# Altium footprint library RBM_V1.0_PcbLib.PcbLib: 39 footprints (part 1 of 3)
Each footprint in its own frame and in the unit in brackets; x right, y up, seen from the top. Pads: shape width x height; smd on the part's side, far side on the other; paste and mask are expansions set on the pad; w line width, h text height; cw(c..) or ccw(c..) is an arc to the next point about the centre after c.
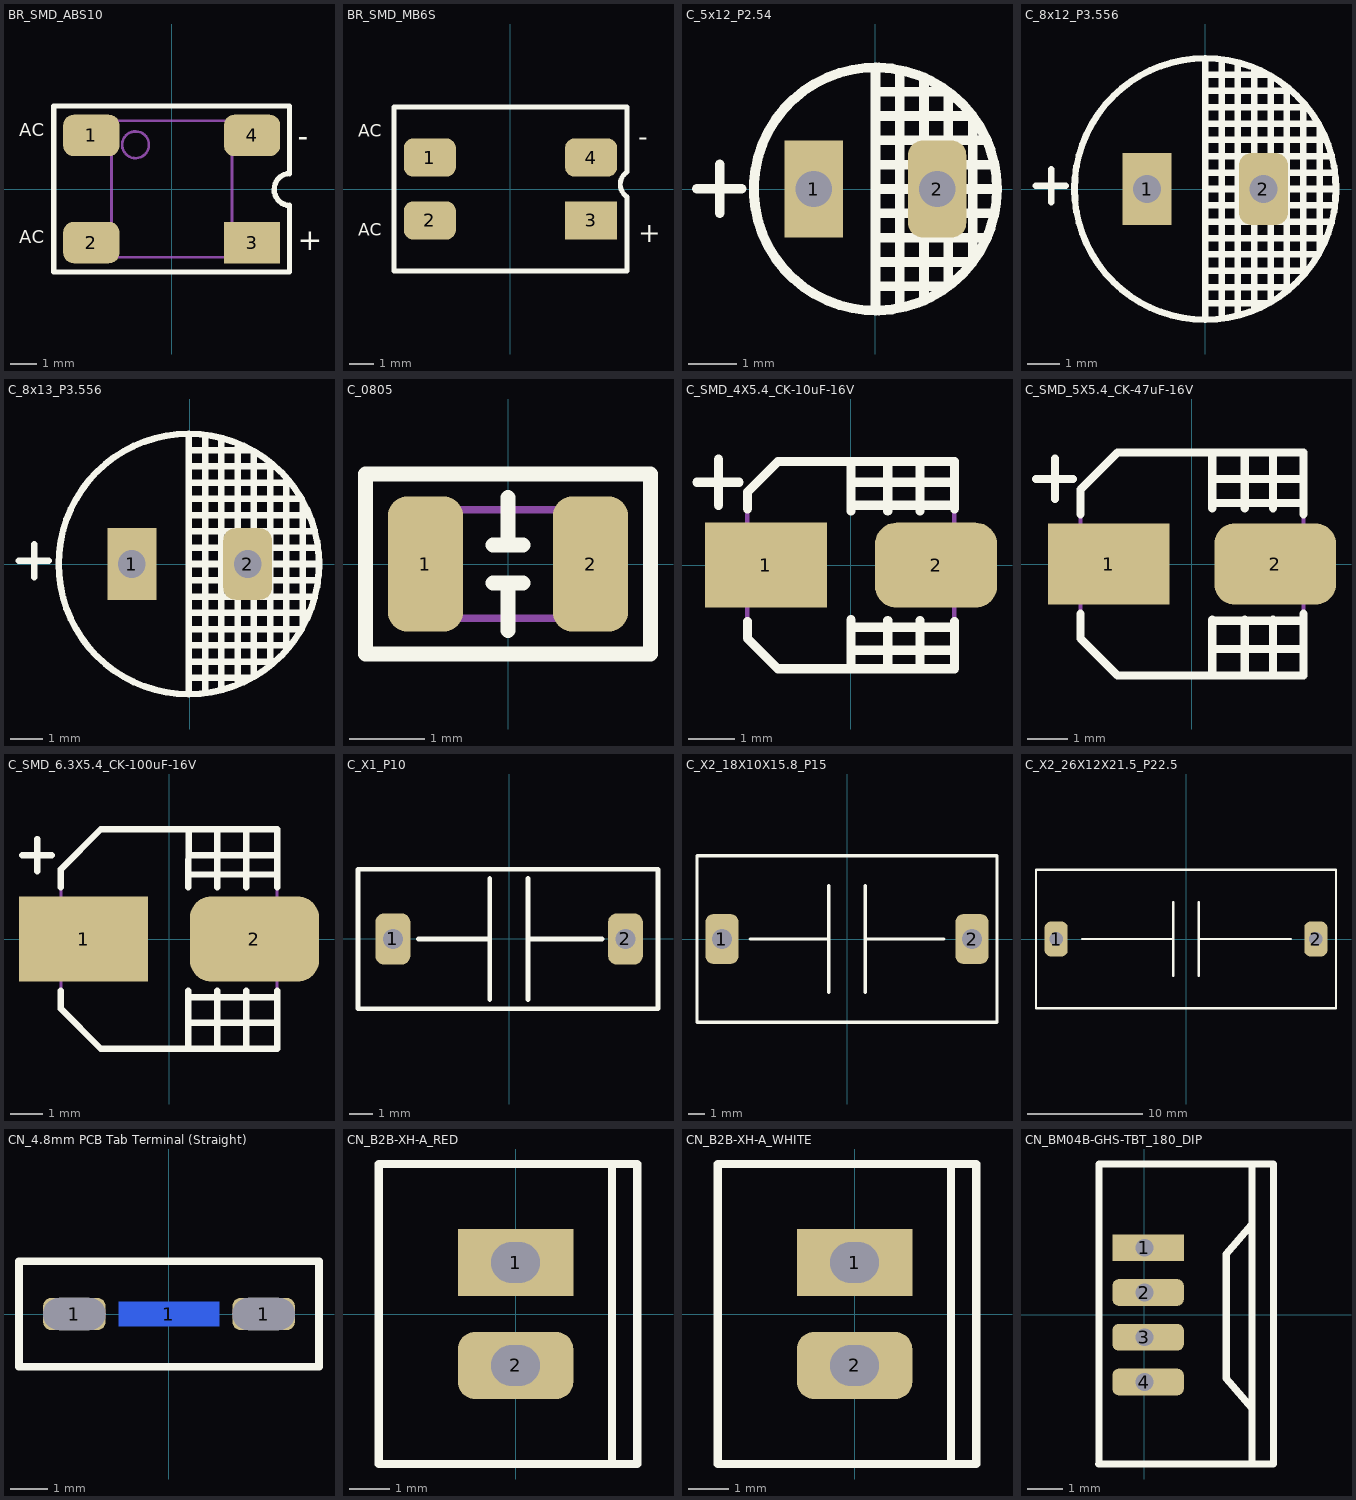
[diagram p0: the footprints below, top view; thin cyan lines are the x and y axes]

## BR_SMD_ABS10 [mm]
pads (4):
  rrect50% 2.1x1.55 smd: 1(-3,2) 2(-3,-2) 4(3,2)
  rect 2.1x1.55 smd: 3(3,-2)
Top Overlay:
  lines w0.2: 4.299,-0.603 cw(c4.427,-0.017) 4.306,0.57 ; 4.4,-0.603 4.4,-3.1 -4.4,-3.1 -4.4,3.1 4.4,3.1 4.4,0.57
  text "AC" at -5.7,-2.2 h0.85
  text "AC" at -5.7,1.8 h0.85
  text "-" at 4.7,2.2 h0.8
  text "+" at 4.7,-1.6 h0.8
Mechanical 13:
  circle w0.1: c-1.35,1.65 r0.5
  lines w0.1: -2.25,-2.55 -2.25,2.55 2.25,2.55 2.25,-2.55 -2.25,-2.55
3D body "TSOP400P650X160-4N.step": height 1.6, standoff 0, extent -3.25,-2.55 3.25,2.55

## BR_SMD_MB6S [mm]
pads (4):
  rrect50% 2.1x1.55 smd: 1(-3.25,1.27) 2(-3.25,-1.27) 4(3.25,1.27)
  rect 2.1x1.55 smd: 3(3.25,-1.27)
Top Overlay:
  lines w0.2: 4.7,-0.322 4.7,-3.3 -4.7,-3.3 -4.7,3.3 4.7,3.3 4.7,0.692 ; 4.705,0.692 ccw(c5.028,0.186) 4.709,-0.322
  text "AC" at -6.15,-2.07 h0.85
  text "AC" at -6.15,1.93 h0.85
  text "-" at 5.15,2.33 h0.8
  text "+" at 5.15,-1.47 h0.8
3D body "User Library-moste3k.STEP": height 1.45, standoff -0.08, extent -3.447,-2.417 3.453,2.577

## C_5x12_P2.54 [mm]
pads (2):
  rect 1.2x2 hole 0.75: 1(-1.27,0)
  rrect50% 1.2x2 hole 0.75: 2(1.27,0)
Top Overlay:
  circle w0.2: c0,0 r2.5
  lines w0.2: -3.67,0.002 -2.754,0.002 ; -3.203,-0.498 -3.203,0.502 ; 0,-2.5 0,2.5 ; 0,-2 1.5,-2 1.5,2 0,2 ; 0,-1.5 2,-1.5 2,1.497 ; 0,-1 2.3,-1 ; 0,-0.5 2.4,-0.5 ; 0,0 2.5,0 ; 0,0.5 2.413,0.5 ; 0,1 2.3,1 ; 0,1.5 2,1.5 ; 0.5,-2.4 0.5,2.4 ; 1,-2.3 1,2.3
3D body "User Library-CE_R100_D200_H460 (1).step": height 13.05, standoff -2.05, extent -2.54,-2.535 2.54,2.54

## C_8x12_P3.556 [mm]
pads (2):
  rect 1.5x2.2 hole 0.85: 1(-1.778,0)
  rrect50% 1.5x2.2 hole 0.85: 2(1.778,0)
Top Overlay:
  circle w0.2: c0,0 r4
  lines w0.1: 0,0 0,4
  lines w0.2: -5.178,0.1 -4.262,0.1 ; -4.711,-0.4 -4.711,0.6 ; 0,-3.937 0,3.937 ; 0,-3.5 1.9,-3.5 ; 0,-3 2.6,-3 ; 0,-2.5 3.1,-2.5 ; 0,-2 3.4,-2 ; 0,-1.5 3.7,-1.5 ; 0,-1 3.8,-1 ; 0,-0.5 3.9,-0.5 ; 0,0 4,0 ; 0,0.5 3.9,0.5 ; 0,1 3.8,1 ; 0,1.5 3.7,1.5 ; 0,2 3.4,2 ; 0,2.5 3.1,2.5 ; 0,3 2.6,3 ; 0,3.5 1.9,3.5 ; 0.5,-3.9 0.5,0 0.5,3.9 ; 1,-3.8 1,0 1,3.8 ; 1.5,-3.7 1.5,0 1.5,3.7 ; 2,-3.4 2,0 2,3.4 ; 2.5,-3.1 2.5,0 2.5,3.1 ; 3,-2.6 3,0 3,2.6 ; 3.5,-1.9 3.5,0 3.5,1.9
3D body "User Library-Cap-EL(8x12-3_5)T.step": height 12.55, standoff -3.05, extent -3.937,-3.937 4.065,4.059

## C_8x13_P3.556 [mm]
pads (2):
  rect 1.5x2.2 hole 0.85: 1(-1.778,0)
  rrect50% 1.5x2.2 hole 0.85: 2(1.778,0)
Top Overlay:
  circle w0.2: c-0.028,0 r4
  lines w0.2: -5.245,0.1 -4.329,0.1 ; -4.778,-0.4 -4.778,0.6 ; -0.028,-3.937 -0.028,3.937 ; -0.028,-3.5 1.872,-3.5 ; -0.028,-3 2.572,-3 ; -0.028,-2.5 3.072,-2.5 ; -0.028,-2 3.372,-2 ; -0.028,-1.5 3.672,-1.5 ; -0.028,-1 3.8,-1 ; -0.028,-0.5 3.872,-0.5 ; -0.028,0 3.972,0 ; -0.028,0.5 3.872,0.5 ; -0.028,1 3.772,1 ; -0.028,1.5 3.672,1.5 ; -0.028,2 3.372,2 ; -0.028,2.5 3.072,2.5 ; -0.028,3 2.572,3 ; -0.028,3.5 1.872,3.5 ; 0.472,-3.9 0.472,0 0.472,3.9 ; 0.972,-3.8 0.972,0 0.972,3.8 ; 1.472,-3.7 1.472,0 1.472,3.7 ; 1.972,-3.4 1.972,0 1.972,3.4 ; 2.472,-3.1 2.472,0 2.472,3.1 ; 2.972,-2.6 2.972,0 2.972,2.6 ; 3.472,-1.9 3.472,0 3.472,1.9
3D body "User Library-CAPAER_D080_L130_P035_W006X030.STEP": height 13.01, standoff -3, extent -4,-4 4.01,4

## C_0805 [mm]
height 1
pads (2):
  rrect50% 1x1.8 smd: 1(-1.1,0) 2(1.1,0)
Top Overlay:
  lines w0.2: -0.2,-0.254 0.2,-0.254 ; -0.2,0.254 0.2,0.254 ; 0,-0.889 0,-0.254 ; 0,0.254 0,0.889 ; -1.9,-1.2 1.9,-1.2 1.9,1.2 -1.9,1.2 -1.9,1.1 -1.9,-1.2
Mechanical 13:
  lines w0.1: -1.1,-0.725 1.1,-0.725 1.1,0.725 -1.1,0.725 -1.1,-0.725
3D body "C_0805.step": height 1, standoff 0, extent -1.1,-0.725 1.1,0.725

## C_SMD_4X5.4_CK-10uF-16V [mm] "Aluminum Electrolytic Capacitor, Body 4.30x4.30x5.80mm, IPC Low Density"
height 5.8
pads (2):
  rect 2.65x1.85 smd: 1(-1.85,0)
  rrect50% 2.65x1.85 smd: 2(1.85,0)
Top Overlay:
  lines w0.2: -3.345,1.8 -2.429,1.8 ; -2.878,1.3 -2.878,2.3 ; -2.25,-1.225 -2.25,-1.587 -1.587,-2.25 2.25,-2.25 2.25,-1.225 ; -2.25,1.225 -2.25,1.587 -1.587,2.25 2.25,2.25 2.25,1.225 ; 0,-2.163 0,-1.188 ; 0,-1.85 2.25,-1.85 ; 0,-1.35 2.25,-1.35 ; 0,1.175 0,2.25 ; 0,1.8 2.25,1.8 ; 0,1.9 0,1.3 2.25,1.3 ; 0.8,-2.175 0.8,-1.2 ; 0.8,1.175 0.8,2.25 ; 1.5,-2.175 1.5,-1.2 ; 1.5,1.175 1.5,2.25
Mechanical 13:
  lines w0.1: -2.25,-1.587 -2.25,1.587 -1.587,2.25 2.25,2.25 2.25,-2.25 -1.587,-2.25 -2.25,-1.587
3D body "CAPAE4643X58M.step": height 5.8, standoff 0, extent -2.275,-2.25 2.275,2.25

## C_SMD_5X5.4_CK-47uF-16V [mm] "Aluminum Electrolytic Capacitor, Body 5.30x5.30x5.80mm, IPC Low Density"
height 5.8
pads (2):
  rect 3x2 smd: 1(-2.05,0)
  rrect50% 3x2 smd: 2(2.05,0)
Top Overlay:
  lines w0.2: -3.845,2.1 -2.929,2.1 ; -3.378,1.6 -3.378,2.6 ; -2.75,-1.225 -2.75,-1.837 -1.838,-2.75 2.75,-2.75 2.75,-1.225 ; -2.75,1.225 -2.75,1.837 -1.838,2.75 2.75,2.75 2.75,1.225 ; 0.5,-2.75 0.5,-1.375 ; 0.5,1.375 0.5,2.75 1.3,2.75 1.3,1.375 ; 1.3,-1.375 1.3,-2.75 2,-2.75 2,-1.375 ; 2,1.375 2,2.75 ; 2.75,-2.1 0.5,-2.1 0.5,-1.4 2.75,-1.4 ; 2.75,1.5 0.5,1.5 0.5,2.1 2.75,2.1
Mechanical 13:
  lines w0.1: -2.75,-1.837 -2.75,1.837 -1.838,2.75 2.75,2.75 2.75,-2.75 -1.838,-2.75 -2.75,-1.837
3D body "CAPAE5653X58M.step": height 5.8, standoff 0, extent -2.775,-2.75 2.775,2.75

## C_SMD_6.3X5.4_CK-100uF-16V [mm] "Aluminum Electrolytic Capacitor, Body 6.60x6.70x6.00mm, IPC Low Density"
height 6
pads (2):
  rect 4x2.65 smd: 1(-2.65,0)
  rrect50% 4x2.65 smd: 2(2.65,0)
Top Overlay:
  lines w0.2: -4.545,2.6 -3.629,2.6 ; -4.078,2.1 -4.078,3.1 ; -3.35,-1.6 -3.35,-2.163 -2.112,-3.4 3.35,-3.4 3.35,-1.6 ; -3.35,1.6 -3.35,2.163 -2.112,3.4 3.35,3.4 3.35,1.6 ; 0.6,-3.4 0.6,-1.6 ; 0.6,-2.6 3.35,-2.6 ; 0.6,-1.8 3.35,-1.8 ; 0.6,1.6 0.619,3.4 ; 0.604,2 3.35,2 ; 0.61,2.6 3.35,2.6 ; 1.5,-3.3 1.5,-1.6 ; 1.5,1.6 1.5,3.4 ; 2.4,-3.4 2.4,-1.6 ; 2.4,1.6 2.4,3.4
Mechanical 13:
  lines w0.1: -3.35,-2.163 -2.112,-3.4 3.35,-3.4 3.35,3.4 -2.112,3.4 -3.35,2.163 -3.35,-2.163
3D body "C_SMD_6.3X5.4_CK-100-16V.step": height 6.3, standoff 0, extent -3.5,-3.4 3.5,3.4

## C_X1_P10 [mm]
pads (2):
  rrect50% 1.5x2.2 hole 0.85: 1(-5,0) 2(5,0)
Top Overlay:
  lines w0.2: -3.9,-0.001 -0.84,0 ; -0.84,-2.6 -0.84,2.6 ; 0.807,-2.6 0.807,2.6 ; 0.807,0 4,0 ; -6.5,-3 6.4,-3 6.4,3 -6.5,3 -6.5,-3
3D body: height 1.5, standoff -2, extent 4.699,-0.254 5.297,0.345
3D body: height 1.5, standoff -2, extent -5.297,-0.254 -4.699,0.345
3D body: height 11.89, standoff 0.68, extent -6.414,-2.921 6.35,2.921

## C_X2_18X10X15.8_P15 [mm]
pads (2):
  rrect50% 2x3 hole 1.2: 1(-7.5,0) 2(7.5,0)
Top Overlay:
  lines w0.2: -5.8,0 -1.1,0 ; -1.1,-3.2 -1.1,3.2 ; 1.1,-3.2 1.1,3.2 ; 1.1,0 5.8,0 ; -9,-5 -9,5 9,5 9,-5 -9,-5
3D body: height 3, standoff -2, extent 7.103,-0.399 7.9,0.399
3D body: height 3, standoff -2, extent -7.898,-0.399 -7.102,0.399
3D body: height 15.8, standoff 0.2, extent -9,-5 9,5

## C_X2_26X12X21.5_P22.5 [mm]
pads (2):
  rrect50% 2x3 hole 1.2: 1(-11.25,0) 2(11.25,0)
Top Overlay:
  lines w0.2: -9,0 -1.1,0 ; -1.1,-3.2 -1.1,3.2 ; 1.1,-3.2 1.1,3.2 ; 1.1,0 9.1,0 ; -13,-6 -13,6 13,6 13,-6 -13,-6
3D body: height 3, standoff -2, extent 10.852,-0.399 11.648,0.399
3D body: height 3, standoff -2, extent -11.648,-0.399 -10.852,0.399
3D body: height 21.5, standoff 0.2, extent -13,-6 13,6

## CN_4.8mm PCB Tab Terminal (Straight) [mm]
pads (3):
  rrect50% 1.65x0.85 / inner rrect50% 1.65x0.85 / far side rrect50% 2.5x1.25 hole 0.85 slot 1.65 at 0 deg: 1(-2.5,0) 1(2.5,0)
  rect 2.65x0.65 smd far side: 1(0,0)
Top Overlay:
  lines w0.2: -3.962,-1.397 -3.962,1.397 3.963,1.397 3.963,-1.397 -3.962,-1.397
3D body "4.8mm PCB Tab Terminal (Straight).stp": height 9, standoff -3.45, extent -3.962,-1.3 3.962,1.494

## CN_B2B-XH-A_RED [mm]
pads (2):
  rect 2.85x1.65 hole 1.2 slot 1 at 90 deg: 1(0,1.27)
  rrect50% 2.85x1.65 hole 1.2 slot 1 at 90 deg: 2(0,-1.27)
Top Overlay:
  lines w0.2: 2.375,-3.7 2.375,3.7 ; 2.375,-3.7 -3.375,-3.7 -3.375,3.7 2.375,3.7 ; 2.375,-3.7 3,-3.7 3,3.7 2.375,3.7
3D body: height 7, standoff -3.5, extent -0.35,-1.615 0.35,-0.925
3D body: height 7, standoff -3.5, extent -0.35,0.925 0.35,1.615
3D body "B2B-XH-A.STEP": height 7, standoff -3.4, extent -3.375,-3.7 2.375,3.7

## CN_B2B-XH-A_WHITE [mm]
pads (2):
  rect 2.85x1.65 hole 1.2 slot 1 at 90 deg: 1(0,1.27)
  rrect50% 2.85x1.65 hole 1.2 slot 1 at 90 deg: 2(0,-1.27)
Top Overlay:
  lines w0.2: 2.375,-3.7 2.375,3.7 ; 2.375,-3.7 -3.375,-3.7 -3.375,3.7 2.375,3.7 ; 2.375,-3.7 3,-3.7 3,3.7 2.375,3.7
3D body: height 7, standoff -3.5, extent -0.35,-1.615 0.35,-0.925
3D body: height 7, standoff -3.5, extent -0.35,0.925 0.35,1.615
3D body "B2B-XH-A.STEP": height 7, standoff -3.4, extent -3.375,-3.7 2.375,3.7

## CN_BM04B-GHS-TBT_180_DIP [mm] "Top Entry Header 1.25mm pitch 1X4pin  180° long"
pads (4):
  rect 2x0.75 hole 0.5 copper offset 0.1,0: 1(0,1.875)
  rrect50% 2x0.75 hole 0.5 copper offset 0.1,0: 2(0,0.625) 3(0,-0.625) 4(0,-1.875)
Top Overlay:
  lines w0.2: -1.28,-4.166 3.6,-4.166 3.6,4.216 -1.27,4.216 -1.27,-4.084 ; 2.985,2.513 2.286,1.697 2.286,-1.774 2.996,-2.603 ; 3,-4.084 3,4.216